# EAGLE library part VNH2SP30 (library draradech)
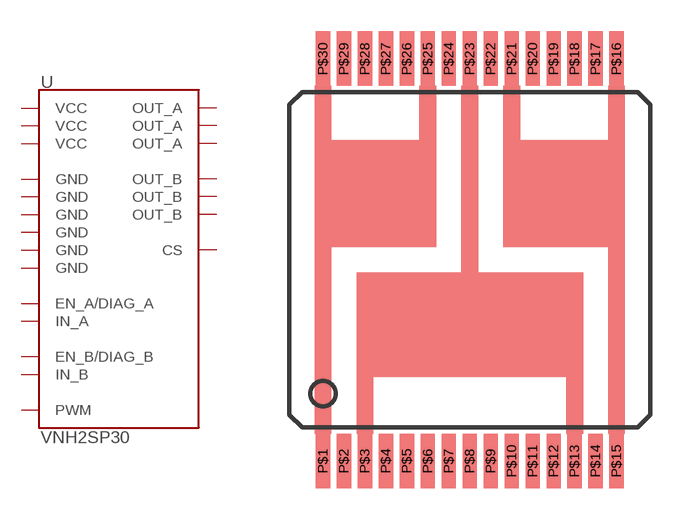
[diagram p1: symbol with the pads of MULTIPOWER30; footprint MULTIPOWER30]

Designator prefix U

## VNH2SP30  [MULTIPOWER30]
P$1  OUT_A  out
P$3  VCC  pwr
P$5  IN_A  in
P$6  EN_A/DIAG_A
P$8  PWM  in
P$9  CS  out
P$10  EN_B/DIAG_B
P$11  IN_B  in
P$13  VCC  pwr
P$15  OUT_B  out
P$16  OUT_B  out
P$18  GND  pwr
P$19  GND  pwr
P$20  GND  pwr
P$21  OUT_B  out
P$23  VCC  pwr
P$25  OUT_A  out
P$26  GND  pwr
P$27  GND  pwr
P$28  GND  pwr
P$30  OUT_A  out

## Footprint MULTIPOWER30 (pad centres in mm)
smd 0.68 x 2.6: P$1 -7,-9.6; P$2 -6,-9.6; P$3 -5,-9.6; P$4 -4,-9.6; P$5 -3,-9.6; P$6 -2,-9.6; P$7 -1,-9.6; P$8 0,-9.6; P$9 1,-9.6; P$10 2,-9.6; P$11 3,-9.6; P$12 4,-9.6; P$13 5,-9.6; P$14 6,-9.6; P$15 7,-9.6; P$16 7,9.6; P$17 6,9.6; P$18 5,9.6; P$19 4,9.6; P$20 3,9.6; P$21 2,9.6; P$22 1,9.6; P$23 0,9.6; P$24 -1,9.6; P$25 -2,9.6; P$26 -3,9.6; P$27 -4,9.6; P$28 -5,9.6; P$29 -6,9.6; P$30 -7,9.6